# EAGLE library part LOGIC,ISOLATOR,DUAL (library QuantumOptics)
Dual logic isolator, such as ADuM3210.
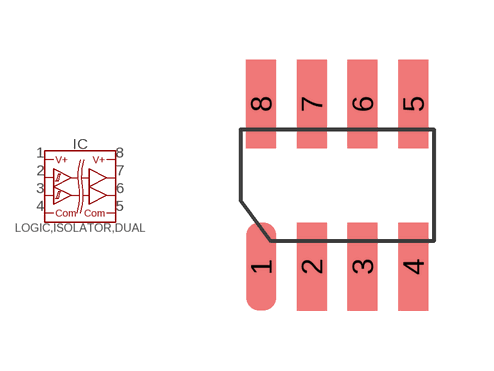
[diagram p161: symbol with the pads of SOIC-8; footprint SOIC-8]

Designator prefix IC

## LOGIC,ISOLATOR,DUAL-SOIC8  [SOIC-8]
1  VDDIN  pwr
2  IN1  in
3  IN2  in
4  COMIN  pwr
5  COMOUT  pwr
6  OUT2  out
7  OUT1  out
8  VDDOUT  pwr

## Footprint SOIC-8 (pad centres in mm)
SOIC-8 (AKA SO-8), pads on 0.050" grid.
smd 0.75 x 2.2: 1 -1.905,-2.032; 2 -0.635,-2.032; 3 0.635,-2.032; 4 1.905,-2.032; 5 1.905,2.032; 6 0.635,2.032; 7 -0.635,2.032; 8 -1.905,2.032